# Altium schematic symbol library RS2MBF.SchLib: 1 symbol
Pins are listed as number, name and electrical type; pins without a type are passive.

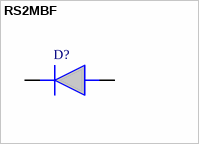
[diagram p0: symbol RS2MBF]

## RS2MBF
designator D?
Diodes - Rectifiers - Fast Recovery 1kV 2A 1.3V @ 2A 500ns SMBF RoHS; Manufacturer_Name: MDD; Geometry.Height: 1.3mm; Manufacturer_Part_Number: RS2MBF; Mouser Part Number: *; Mouser Price/Stock: *; Arrow Part Number: *; Arrow Price/Stock: *; Mouser Testing Part Number: *; Mouser Testing Price/Stock: *; Datasheet Link: https://datasheet.lcsc.com/szlcsc/MDD-Jiangsu-Yutai-Elec-RS2MBF_C113944.pdf
footprint SODFL5336X130N
pins: 1 K, 2 A